# Altium footprint library COMPONENTES.PcbLib: 191 footprints (part 10 of 12)
Each footprint in its own frame and in the unit in brackets; x right, y up, seen from the top. Pads: shape width x height; smd on the part's side, far side on the other; paste and mask are expansions set on the pad; w line width, h text height; cw(c..) or ccw(c..) is an arc to the next point about the centre after c.
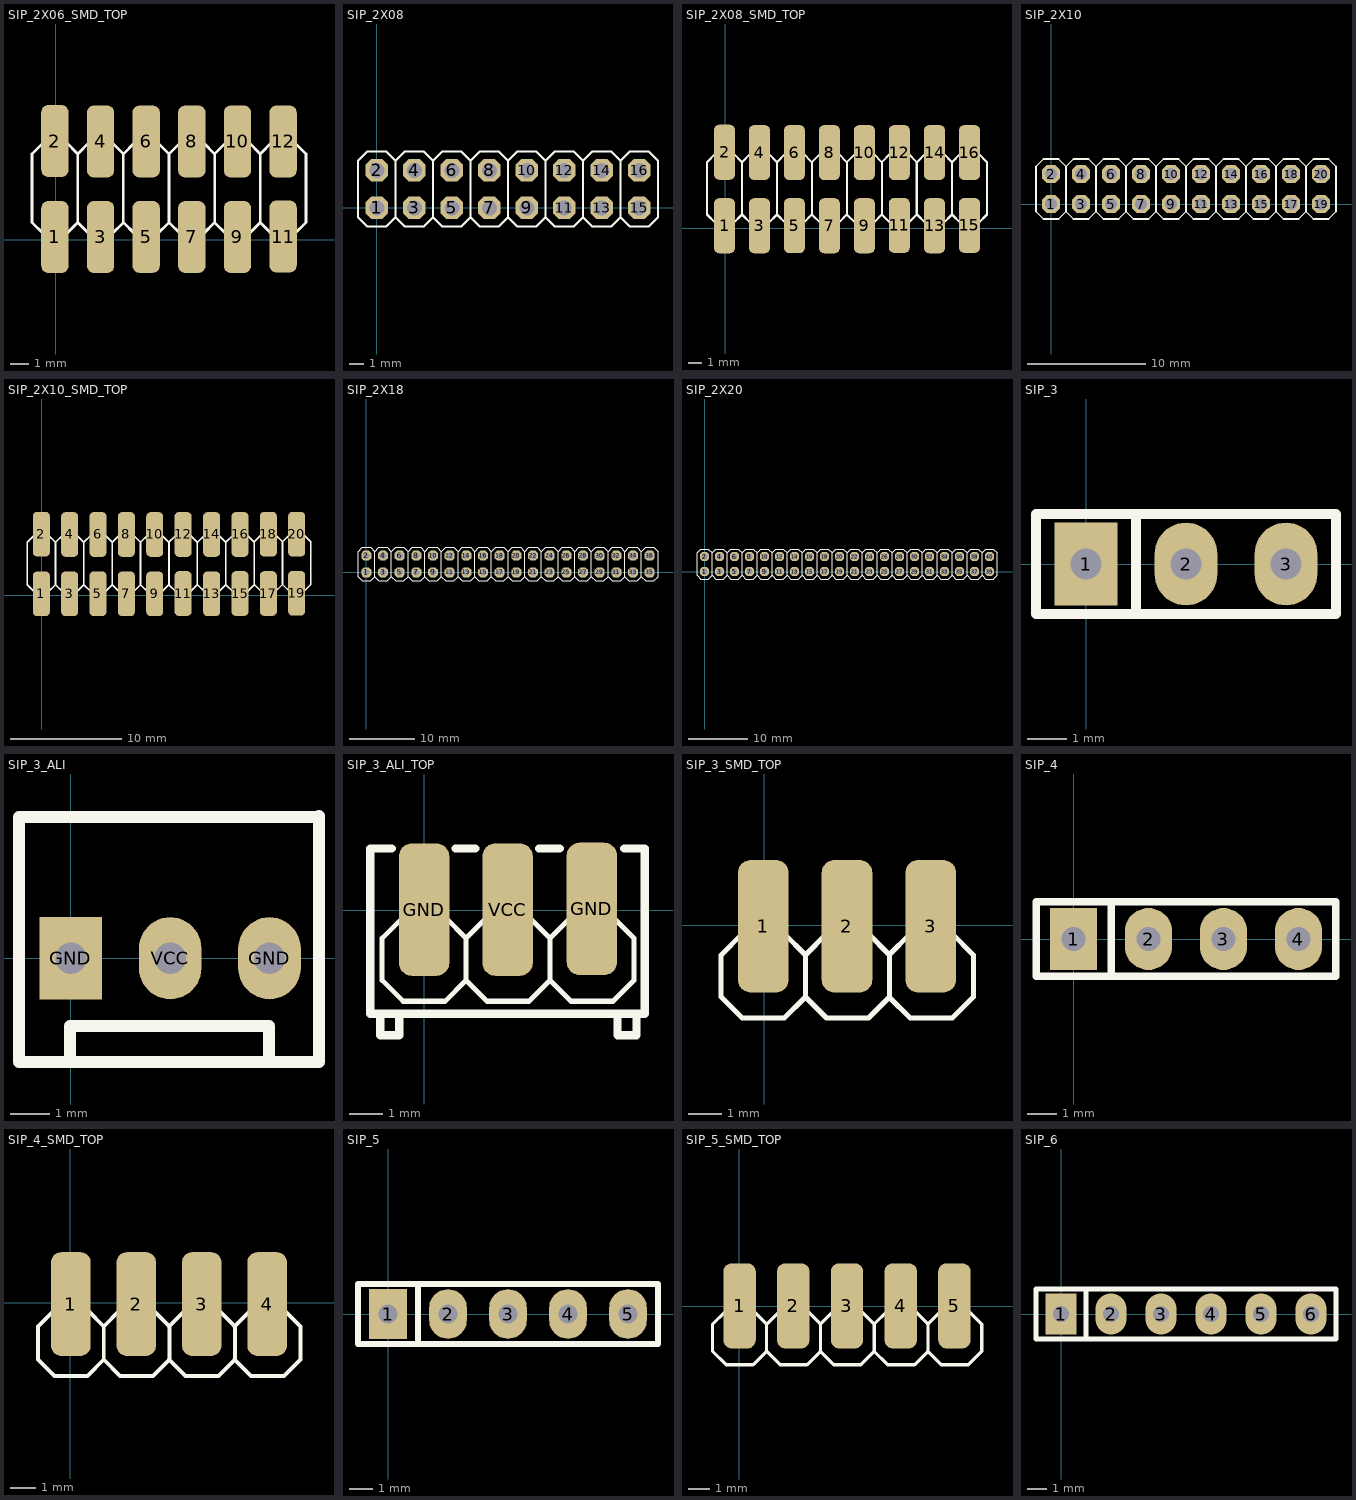
[diagram p9: the footprints below, top view; thin cyan lines are the x and y axes]

## SIP_2X06_SMD_TOP [mm]
pads (12):
  rrect50% 1.524x4 smd: 1(-0.05,0.15) 2(-0.05,5.49) 3(2.49,0.15) 4(2.49,5.465) 5(5.025,0.155) 6(5.03,5.465) 7(7.57,0.15) 8(7.57,5.465) 9(10.11,0.15) 10(10.11,5.465) 11(12.65,0.175) 12(12.65,5.465)
Top Overlay:
  rectangle: 12.396,1.346 12.904,1.854
  rectangle: 12.396,3.886 12.904,4.394
  rectangle: 9.856,1.346 10.364,1.854
  rectangle: 7.316,1.346 7.824,1.854
  rectangle: 9.856,3.886 10.364,4.394
  rectangle: 7.316,3.886 7.824,4.394
  rectangle: 4.776,1.346 5.284,1.854
  rectangle: 4.776,3.886 5.284,4.394
  rectangle: 2.236,1.346 2.744,1.854
  rectangle: 2.236,3.886 2.744,4.394
  rectangle: -0.304,3.886 0.204,4.394
  rectangle: -0.304,1.346 0.204,1.854
  lines w0.152: 1.22,0.965 1.22,4.775 ; 1.22,0.965 1.855,0.33 3.125,0.33 3.76,0.965 ; 1.22,0.965 0.585,0.33 -0.685,0.33 -1.32,0.965 -1.32,4.775 -0.685,5.41 0.585,5.41 1.22,4.775 ; 1.22,4.775 1.855,5.41 3.125,5.41 3.76,4.775 ; 3.76,0.965 3.76,4.775 ; 3.76,0.965 4.395,0.33 5.665,0.33 6.3,0.965 ; 3.76,4.775 4.395,5.41 5.665,5.41 6.3,4.775 ; 6.3,0.965 6.3,4.775 ; 6.3,0.965 6.935,0.33 8.205,0.33 8.84,0.965 ; 6.3,4.775 6.935,5.41 8.205,5.41 8.84,4.775 ; 8.84,0.965 8.84,4.775 ; 8.84,0.965 9.475,0.33 10.745,0.33 11.38,0.965 ; 8.84,4.775 9.475,5.41 10.745,5.41 11.38,4.775 ; 11.38,0.965 12.015,0.33 13.285,0.33 13.92,0.965 13.92,4.775 13.285,5.41 12.015,5.41 11.38,4.775 ; 11.38,0.965 11.38,4.775

## SIP_2X08 [mil]
height 104.33
pads (16):
  oct 60x60 hole 40: 1(0,0) 2(0,100) 3(100,0) 4(100,100) 5(200,0) 6(200,100) 7(300,0) 8(300,100) 9(400,0) 10(400,100) 11(500,0) 12(500,100) 13(600,0) 14(600,100) 15(700,0) 16(700,100)
Top Overlay:
  rectangle: -10,-10 10,10
  rectangle: -10,90 10,110
  rectangle: 90,90 110,110
  rectangle: 90,-10 110,10
  rectangle: 190,90 210,110
  rectangle: 190,-10 210,10
  rectangle: 290,90 310,110
  rectangle: 390,90 410,110
  rectangle: 490,90 510,110
  rectangle: 290,-10 310,10
  rectangle: 390,-10 410,10
  rectangle: 490,-10 510,10
  rectangle: 590,90 610,110
  rectangle: 590,-10 610,10
  rectangle: 690,90 710,110
  rectangle: 690,-10 710,10
  lines w6: 50,-25 25,-50 -25,-50 -50,-25 -50,125 -25,150 25,150 50,125 ; 50,-25 75,-50 125,-50 150,-25 ; 50,-25 50,125 ; 50,125 75,150 125,150 150,125 ; 150,-25 175,-50 225,-50 250,-25 ; 150,-25 150,125 ; 150,125 175,150 225,150 250,125 ; 250,-25 275,-50 325,-50 350,-25 ; 250,-25 250,125 ; 250,125 275,150 325,150 350,125 ; 350,-25 375,-50 425,-50 450,-25 ; 350,-25 350,125 ; 350,125 375,150 425,150 450,125 ; 450,-25 475,-50 525,-50 550,-25 ; 450,-25 450,125 ; 450,125 475,150 525,150 550,125 ; 550,-25 575,-50 625,-50 650,-25 ; 550,-25 550,125 ; 550,125 575,150 625,150 650,125 ; 650,-25 650,125 ; 650,-25 675,-50 725,-50 750,-25 750,125 725,150 675,150 650,125

## SIP_2X08_SMD_TOP [mm]
pads (16):
  rrect50% 1.524x4 smd: 1(-0.05,0.175) 2(-0.05,5.515) 3(2.49,0.175) 4(2.49,5.49) 5(5.025,0.18) 6(5.03,5.49) 7(7.57,0.175) 8(7.57,5.49) 9(10.11,0.175) 10(10.11,5.49) 11(12.65,0.2) 12(12.65,5.49) 13(15.21,0.175) 14(15.21,5.49) 15(17.75,0.2) 16(17.75,5.49)
Top Overlay:
  rectangle: 17.496,1.371 18.004,1.879
  rectangle: 17.496,3.911 18.004,4.419
  rectangle: 14.956,1.371 15.464,1.879
  rectangle: 14.956,3.911 15.464,4.419
  rectangle: -0.304,1.371 0.204,1.879
  rectangle: -0.304,3.911 0.204,4.419
  rectangle: 2.236,3.911 2.744,4.419
  rectangle: 2.236,1.371 2.744,1.879
  rectangle: 4.776,3.911 5.284,4.419
  rectangle: 4.776,1.371 5.284,1.879
  rectangle: 7.316,3.911 7.824,4.419
  rectangle: 9.856,3.911 10.364,4.419
  rectangle: 7.316,1.371 7.824,1.879
  rectangle: 9.856,1.371 10.364,1.879
  rectangle: 12.396,3.911 12.904,4.419
  rectangle: 12.396,1.371 12.904,1.879
  lines w0.152: 13.94,0.99 14.575,0.355 15.845,0.355 16.48,0.99 ; 13.94,4.8 14.575,5.435 15.845,5.435 16.48,4.8 ; 1.22,0.99 0.585,0.355 -0.685,0.355 -1.32,0.99 -1.32,4.8 -0.685,5.435 0.585,5.435 1.22,4.8 ; 1.22,0.99 1.855,0.355 3.125,0.355 3.76,0.99 ; 1.22,0.99 1.22,4.8 ; 1.22,4.8 1.855,5.435 3.125,5.435 3.76,4.8 ; 3.76,0.99 4.395,0.355 5.665,0.355 6.3,0.99 ; 3.76,0.99 3.76,4.8 ; 3.76,4.8 4.395,5.435 5.665,5.435 6.3,4.8 ; 6.3,0.99 6.935,0.355 8.205,0.355 8.84,0.99 ; 6.3,0.99 6.3,4.8 ; 6.3,4.8 6.935,5.435 8.205,5.435 8.84,4.8 ; 8.84,0.99 9.475,0.355 10.745,0.355 11.38,0.99 ; 8.84,0.99 8.84,4.8 ; 8.84,4.8 9.475,5.435 10.745,5.435 11.38,4.8 ; 11.38,0.99 11.38,4.8 ; 11.38,0.99 12.015,0.355 13.285,0.355 13.92,0.99 13.92,4.8 13.285,5.435 12.015,5.435 11.38,4.8 ; 16.48,0.99 17.115,0.355 18.385,0.355 19.02,0.99 19.02,4.8 18.385,5.435 17.115,5.435 16.48,4.8 ; 16.48,0.99 16.48,4.8

## SIP_2X10 [mil]
height 104.33
pads (20):
  oct 60x60 hole 40: 1(0,0) 2(0,100) 3(100,0) 4(100,100) 5(200,0) 6(200,100) 7(300,0) 8(300,100) 9(400,0) 10(400,100) 11(500,0) 12(500,100) 13(600,0) 14(600,100) 15(700,0) 16(700,100) 17(800,0) 18(800,100) 19(900,0) 20(900,100)
Top Overlay:
  rectangle: 890,-10 910,10
  rectangle: 890,90 910,110
  rectangle: 790,-10 810,10
  rectangle: 790,90 810,110
  rectangle: 690,-10 710,10
  rectangle: 690,90 710,110
  rectangle: 590,-10 610,10
  rectangle: 590,90 610,110
  rectangle: 490,-10 510,10
  rectangle: 390,-10 410,10
  rectangle: 290,-10 310,10
  rectangle: 490,90 510,110
  rectangle: 390,90 410,110
  rectangle: 290,90 310,110
  rectangle: 190,-10 210,10
  rectangle: 190,90 210,110
  rectangle: 90,-10 110,10
  rectangle: 90,90 110,110
  rectangle: -10,90 10,110
  rectangle: -10,-10 10,10
  lines w6: 50,-25 50,125 ; 50,-25 75,-50 125,-50 150,-25 ; 50,-25 25,-50 -25,-50 -50,-25 -50,125 -25,150 25,150 50,125 ; 50,125 75,150 125,150 150,125 ; 150,-25 150,125 ; 150,-25 175,-50 225,-50 250,-25 ; 150,125 175,150 225,150 250,125 ; 250,-25 250,125 ; 250,-25 275,-50 325,-50 350,-25 ; 250,125 275,150 325,150 350,125 ; 350,-25 350,125 ; 350,-25 375,-50 425,-50 450,-25 ; 350,125 375,150 425,150 450,125 ; 450,-25 450,125 ; 450,-25 475,-50 525,-50 550,-25 ; 450,125 475,150 525,150 550,125 ; 550,-25 550,125 ; 550,-25 575,-50 625,-50 650,-25 ; 550,125 575,150 625,150 650,125 ; 650,-25 650,125 ; 650,-25 675,-50 725,-50 750,-25 ; 650,125 675,150 725,150 750,125 ; 750,-25 750,125 ; 750,-25 775,-50 825,-50 850,-25 ; 750,125 775,150 825,150 850,125 ; 850,-25 875,-50 925,-50 950,-25 950,125 925,150 875,150 850,125 ; 850,-25 850,125

## SIP_2X10_SMD_TOP [mm]
pads (20):
  rrect50% 1.524x4 smd: 1(-0.025,0.15) 2(-0.025,5.49) 3(2.515,0.15) 4(2.515,5.465) 5(5.05,0.155) 6(5.055,5.465) 7(7.595,0.15) 8(7.595,5.465) 9(10.135,0.15) 10(10.135,5.465) 11(12.675,0.175) 12(12.675,5.465) 13(15.235,0.15) 14(15.235,5.465) 15(17.775,0.175) 16(17.775,5.465) 17(20.311,0.175) 18(20.311,5.49) 19(22.851,0.2) 20(22.851,5.49)
Top Overlay:
  rectangle: 17.521,1.346 18.029,1.854
  rectangle: 17.521,3.886 18.029,4.394
  rectangle: 14.981,1.346 15.489,1.854
  rectangle: 14.981,3.886 15.489,4.394
  rectangle: -0.279,1.346 0.229,1.854
  rectangle: -0.279,3.886 0.229,4.394
  rectangle: 2.261,3.886 2.769,4.394
  rectangle: 2.261,1.346 2.769,1.854
  rectangle: 4.801,3.886 5.309,4.394
  rectangle: 4.801,1.346 5.309,1.854
  rectangle: 7.341,3.886 7.849,4.394
  rectangle: 9.881,3.886 10.389,4.394
  rectangle: 7.341,1.346 7.849,1.854
  rectangle: 9.881,1.346 10.389,1.854
  rectangle: 12.421,3.886 12.929,4.394
  rectangle: 12.421,1.346 12.929,1.854
  rectangle: 20.057,3.911 20.565,4.419
  rectangle: 20.057,1.371 20.565,1.879
  rectangle: 22.597,3.911 23.105,4.419
  rectangle: 22.597,1.371 23.105,1.879
  lines w0.152: 13.965,0.965 14.6,0.33 15.87,0.33 16.505,0.965 ; 13.965,4.775 14.6,5.41 15.87,5.41 16.505,4.775 ; 19.041,0.99 19.676,0.355 20.946,0.355 21.581,0.99 ; 19.041,4.8 19.676,5.435 20.946,5.435 21.581,4.8 ; 1.245,0.965 0.61,0.33 -0.66,0.33 -1.295,0.965 -1.295,4.775 -0.66,5.41 0.61,5.41 1.245,4.775 ; 1.245,0.965 1.88,0.33 3.15,0.33 3.785,0.965 ; 1.245,0.965 1.245,4.775 ; 1.245,4.775 1.88,5.41 3.15,5.41 3.785,4.775 ; 3.785,0.965 4.42,0.33 5.69,0.33 6.325,0.965 ; 3.785,0.965 3.785,4.775 ; 3.785,4.775 4.42,5.41 5.69,5.41 6.325,4.775 ; 6.325,0.965 6.96,0.33 8.23,0.33 8.865,0.965 ; 6.325,0.965 6.325,4.775 ; 6.325,4.775 6.96,5.41 8.23,5.41 8.865,4.775 ; 8.865,0.965 9.5,0.33 10.77,0.33 11.405,0.965 ; 8.865,0.965 8.865,4.775 ; 8.865,4.775 9.5,5.41 10.77,5.41 11.405,4.775 ; 11.405,0.965 11.405,4.775 ; 11.405,0.965 12.04,0.33 13.31,0.33 13.945,0.965 13.945,4.775 13.31,5.41 12.04,5.41 11.405,4.775 ; 16.505,0.965 17.14,0.33 18.41,0.33 19.045,0.965 19.045,4.775 18.41,5.41 17.14,5.41 16.505,4.775 ; 16.505,0.965 16.505,4.775 ; 21.581,0.99 21.581,4.8 ; 21.581,0.99 22.216,0.355 23.486,0.355 24.121,0.99 24.121,4.8 23.486,5.435 22.216,5.435 21.581,4.8

## SIP_2X18 [mil]
pads (36):
  oct 60x60 hole 40: 1(0,0) 2(0,100) 3(100,0) 4(100,100) 5(200,0) 6(200,100) 7(300,0) 8(300,100) 9(400,0) 10(400,100) 11(500,0) 12(500,100) 13(600,0) 14(600,100) 15(700,0) 16(700,100) 17(800,0) 18(800,100) 19(900,0) 20(900,100) 21(1000,0) 22(1000,100) 23(1100,0) 24(1100,100) 25(1200,0) 26(1200,100) 27(1300,0) 28(1300,100) 29(1400,0) 30(1400,100) 31(1500,0) 32(1500,100) 33(1600,0) 34(1600,100) 35(1700,0) 36(1700,100)
Top Overlay:
  drawing of 164 lines, arcs and shapes, not listed

## SIP_2X20 [mil]
pads (40):
  oct 60x60 hole 40: 1(0,0) 2(0,100) 3(100,0) 4(100,100) 5(200,0) 6(200,100) 7(300,0) 8(300,100) 9(400,0) 10(400,100) 11(500,0) 12(500,100) 13(600,0) 14(600,100) 15(700,0) 16(700,100) 17(800,0) 18(800,100) 19(900,0) 20(900,100) 21(1000,0) 22(1000,100) 23(1100,0) 24(1100,100) 25(1200,0) 26(1200,100) 27(1300,0) 28(1300,100) 29(1400,0) 30(1400,100) 31(1500,0) 32(1500,100) 33(1600,0) 34(1600,100) 35(1700,0) 36(1700,100) 37(1800,0) 38(1800,100) 39(1900,0) 40(1900,100)
Top Overlay:
  drawing of 182 lines, arcs and shapes, not listed

## SIP_3 [mm]
height 2.65
pads (3):
  rect 1.6x2.1 hole 0.8: 1(0,0)
  oval 1.6x2.1 hole 0.8: 2(2.54,0) 3(5.08,0)
Top Overlay:
  lines w0.254: 1.27,-1.27 1.27,1.27 ; -1.27,-1.27 6.35,-1.27 6.35,1.27 -1.27,1.27 -1.27,-1.27

## SIP_3_ALI [mm]
height 2.65
pads (3):
  rect 1.6x2.1 hole 0.8: GND(0,0)
  oval 1.6x2.1 hole 0.8: GND(5.08,0) VCC(2.54,0)
Top Overlay:
  lines w0.305: -0.029,-2.583 -0.029,-1.733 5.071,-1.733 5.071,-2.608 ; 6.346,3.617 -1.329,3.617 -1.329,-2.658 6.346,-2.658 6.346,3.642

## SIP_3_ALI_TOP [mm]
pads (3):
  rrect50% 1.524x4 smd: GND(0,0.025) GND(5.075,0.05) VCC(2.525,0.025)
Top Overlay:
  lines w0.152: 1.27,-2.11 1.905,-2.745 3.175,-2.745 3.81,-2.11 ; 1.27,-2.11 0.635,-2.745 -0.635,-2.745 -1.27,-2.11 -1.27,-0.84 -0.635,-0.205 0.635,-0.205 1.27,-0.84 ; 1.27,-2.11 1.27,-0.84 ; 1.27,-0.84 1.905,-0.205 3.175,-0.205 3.81,-0.84 ; 3.81,-2.11 4.445,-2.745 5.715,-2.745 6.35,-2.11 6.35,-0.84 5.715,-0.205 4.445,-0.205 3.81,-0.84 ; 3.81,-2.11 3.81,-0.84
  lines w0.254: -1.325,-3.125 -1.325,-3.775 -0.75,-3.775 -0.75,-3.125 ; -0.975,1.875 -1.625,1.875 -1.625,-3.125 6.675,-3.125 6.675,1.875 6.05,1.875 ; 0.95,1.875 1.55,1.875 ; 3.475,1.875 4.1,1.875 ; 5.85,-3.125 5.85,-3.775 6.425,-3.775 6.425,-3.125

## SIP_3_SMD_TOP [mm]
pads (3):
  rrect50% 1.524x4 smd: 1(-0.025,-0.025) 2(2.5,-0.025) 3(5.025,-0.025)
Top Overlay:
  lines w0.152: 3.77,-2.16 4.405,-2.795 5.675,-2.795 6.31,-2.16 6.31,-0.89 5.675,-0.255 4.405,-0.255 3.77,-0.89 ; 1.245,-2.16 1.88,-2.795 3.15,-2.795 3.785,-2.16 3.785,-0.89 3.15,-0.255 1.88,-0.255 1.245,-0.89 ; 1.245,-2.16 0.61,-2.795 -0.66,-2.795 -1.295,-2.16 -1.295,-0.89 -0.66,-0.255 0.61,-0.255 1.245,-0.89 ; 1.245,-2.16 1.245,-0.89

## SIP_4 [mm]
height 2.65
pads (4):
  rect 1.6x2.1 hole 0.8: 1(0,0)
  oval 1.6x2.1 hole 0.8: 2(2.54,0) 3(5.08,0) 4(7.62,0)
Top Overlay:
  lines w0.254: 1.27,-1.27 1.27,1.27 ; -1.27,-1.27 -1.27,1.27 8.89,1.27 8.89,-1.27 -1.27,-1.27

## SIP_4_SMD_TOP [mm]
pads (4):
  rrect50% 1.524x4 smd: 1(0.025,-0.05) 2(2.55,-0.05) 3(5.075,-0.05) 4(7.6,-0.05)
Top Overlay:
  lines w0.152: 3.82,-2.185 4.455,-2.82 5.725,-2.82 6.36,-2.185 6.36,-0.915 5.725,-0.28 4.455,-0.28 3.82,-0.915 ; 6.345,-2.185 6.98,-2.82 8.25,-2.82 8.885,-2.185 8.885,-0.915 8.25,-0.28 6.98,-0.28 6.345,-0.915 ; 1.295,-2.185 1.93,-2.82 3.2,-2.82 3.835,-2.185 3.835,-0.915 3.2,-0.28 1.93,-0.28 1.295,-0.915 ; 1.295,-2.185 0.66,-2.82 -0.61,-2.82 -1.245,-2.185 -1.245,-0.915 -0.61,-0.28 0.66,-0.28 1.295,-0.915 ; 1.295,-2.185 1.295,-0.915

## SIP_5 [mm]
height 2.65
pads (5):
  rect 1.6x2.1 hole 0.8: 1(0,0)
  oval 1.6x2.1 hole 0.8: 2(2.54,0) 3(5.08,0) 4(7.62,0) 5(10.16,0)
Top Overlay:
  lines w0.254: 1.27,-1.27 1.27,1.27 ; -1.27,-1.27 -1.27,1.27 11.43,1.27 11.43,-1.27 -1.27,-1.27

## SIP_5_SMD_TOP [mm]
pads (5):
  rrect50% 1.524x4 smd: 1(0.025,0.025) 2(2.55,0.025) 3(5.075,0.025) 4(7.6,0.025) 5(10.125,0.025)
Top Overlay:
  lines w0.152: 3.82,-2.11 4.455,-2.745 5.725,-2.745 6.36,-2.11 6.36,-0.84 5.725,-0.205 4.455,-0.205 3.82,-0.84 ; 6.345,-2.11 6.98,-2.745 8.25,-2.745 8.885,-2.11 8.885,-0.84 8.25,-0.205 6.98,-0.205 6.345,-0.84 ; 8.87,-2.11 9.505,-2.745 10.775,-2.745 11.41,-2.11 11.41,-0.84 10.775,-0.205 9.505,-0.205 8.87,-0.84 ; 1.295,-2.11 1.93,-2.745 3.2,-2.745 3.835,-2.11 3.835,-0.84 3.2,-0.205 1.93,-0.205 1.295,-0.84 ; 1.295,-2.11 0.66,-2.745 -0.61,-2.745 -1.245,-2.11 -1.245,-0.84 -0.61,-0.205 0.66,-0.205 1.295,-0.84 ; 1.295,-2.11 1.295,-0.84

## SIP_6 [mm]
height 2.65
pads (6):
  rect 1.6x2.1 hole 0.8: 1(0,0)
  oval 1.6x2.1 hole 0.8: 2(2.54,0) 3(5.08,0) 4(7.62,0) 5(10.16,0) 6(12.7,0)
Top Overlay:
  lines w0.254: 1.27,-1.27 1.27,1.27 ; -1.27,-1.27 13.97,-1.27 13.97,1.27 -1.27,1.27 -1.27,-1.27